# Altium footprint library SOT.PcbLib: 25 footprints (part 1 of 2)
Each footprint in its own frame and in the unit in brackets; x right, y up, seen from the top. Pads: shape width x height; smd on the part's side, far side on the other; paste and mask are expansions set on the pad; w line width, h text height; cw(c..) or ccw(c..) is an arc to the next point about the centre after c.
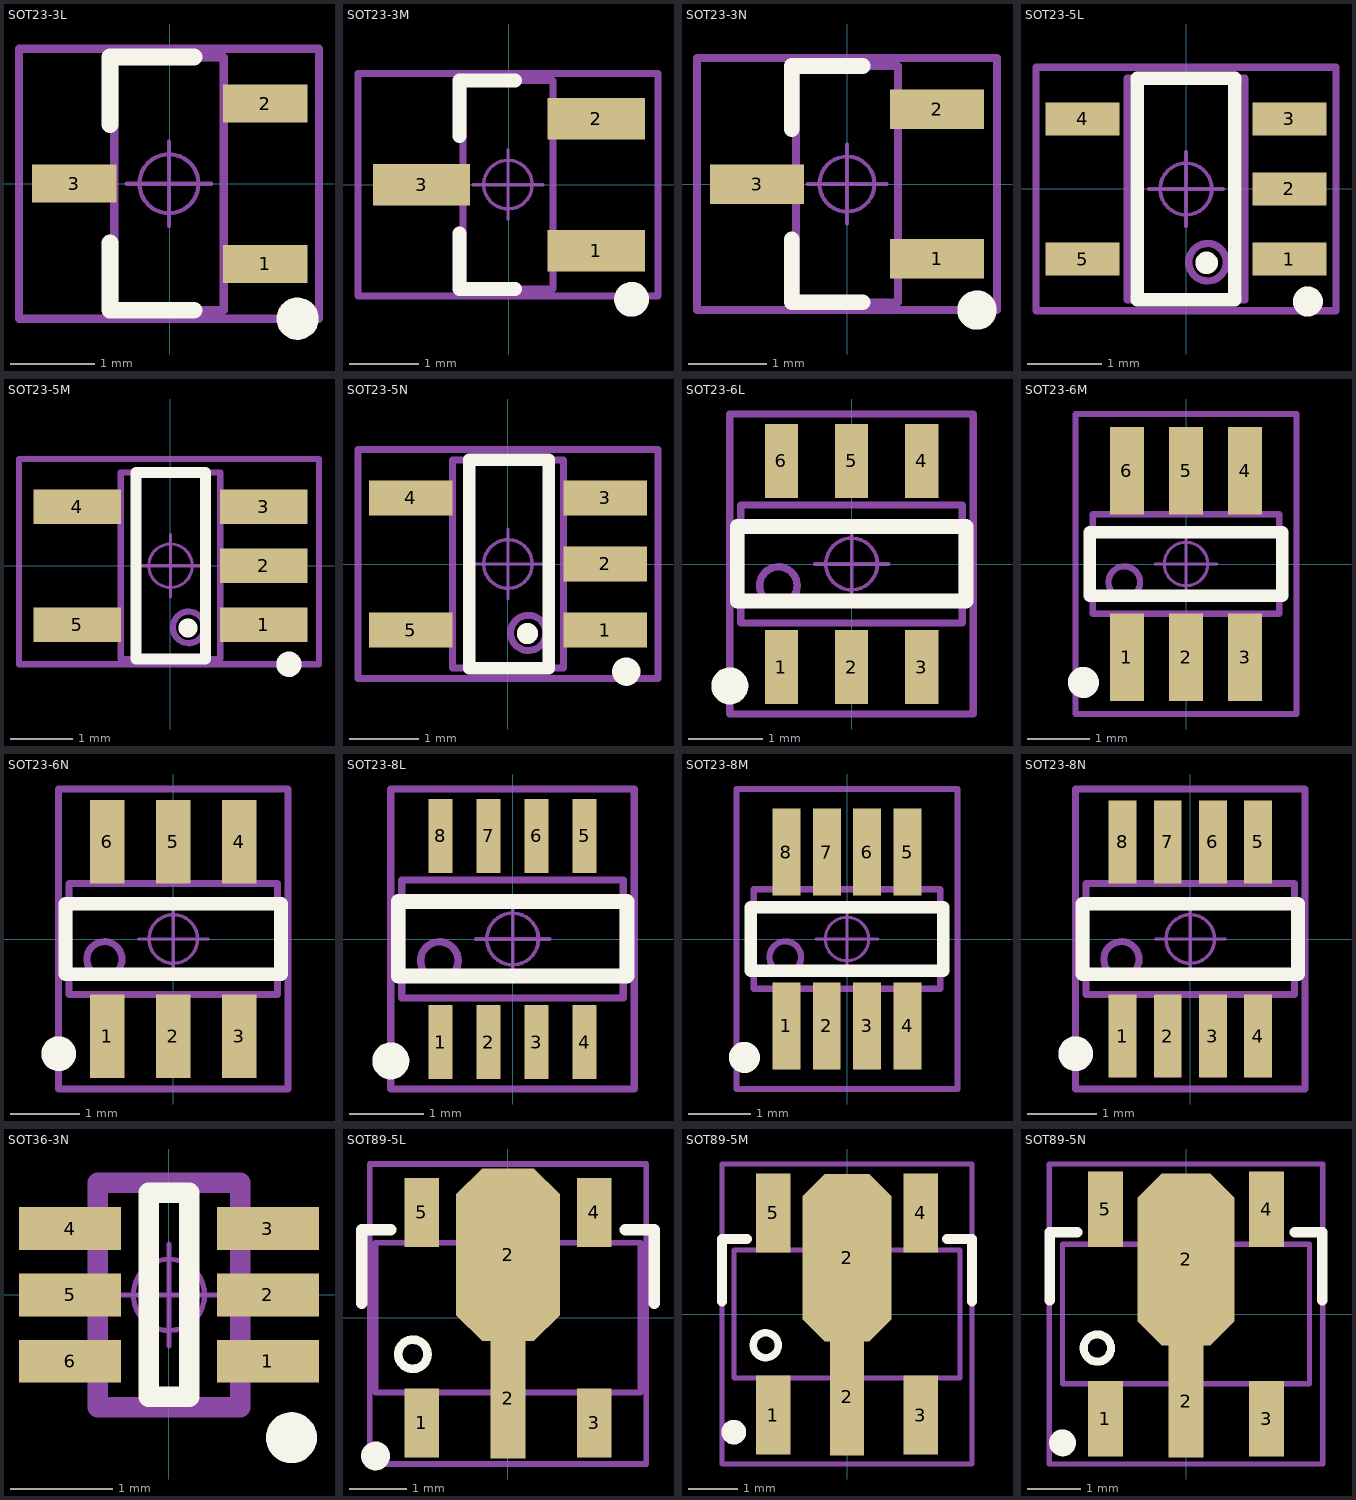
[diagram p0: the footprints below, top view; thin cyan lines are the x and y axes]

## SOT23-3L [mm] "3x1.3x1mm(长宽高)"
height 1.1
pads (3):
  rect 1x0.45 smd: 1(1.134,-0.95) 2(1.134,0.95) 3(-1.134,0)
Top Overlay:
  circle w0.25: c1.515,-1.6 r0.125
  lines w0.2: -0.709,-0.7 -0.709,-1.5 0.291,-1.5 ; -0.709,0.7 -0.709,1.5 0.291,1.5
Mechanical 13:
  lines w0.1: -0.659,-1.5 -0.659,1.5 0.641,1.5 0.641,-1.5 -0.659,-1.5
Mechanical 15:
  circle w0.05: c-0.009,0 r0.35
  lines w0.05: -0.509,0 0.491,0 ; -0.009,-0.5 -0.009,0.5
  lines w0.1: -1.787,-1.6 -1.787,1.6 1.769,1.6 1.769,-1.6 -1.787,-1.6
3D body "SOT23-3.STEP": height 1.05, standoff 0, extent -1.209,-1.5 1.191,1.5

## SOT23-3M [mm] "3x1.3x1mm(长宽高)"
height 1.1
pads (3):
  rect 1.4x0.6 smd: 1(1.257,-0.95) 2(1.257,0.95) 3(-1.257,0)
Top Overlay:
  circle w0.25: c1.765,-1.651 r0.125
  lines w0.2: -0.713,-0.7 -0.713,-1.5 0.087,-1.5 ; -0.713,0.7 -0.713,1.5 0.087,1.5
Mechanical 13:
  lines w0.1: -0.663,-1.5 0.637,-1.5 0.637,1.5 -0.663,1.5 -0.663,-1.5
Mechanical 15:
  circle w0.05: c-0.013,0 r0.35
  lines w0.05: -0.513,0 0.487,0 ; -0.013,-0.5 -0.013,0.5
  lines w0.1: -2.172,-1.6 2.146,-1.6 2.146,1.6 -2.172,1.6 -2.172,-1.6
3D body "SOT23-3.STEP": height 1.05, standoff 0, extent -1.213,-1.5 1.187,1.5

## SOT23-3N [mm] "3x1.3x1mm(长宽高)"
height 1.1
pads (3):
  rect 1.2x0.5 smd: 1(1.143,-0.95) 2(1.143,0.95) 3(-1.143,0)
Top Overlay:
  circle w0.25: c1.651,-1.6 r0.125
  lines w0.2: -0.7,-0.701 -0.7,-1.501 0.2,-1.501 ; -0.7,0.699 -0.7,1.499 0.2,1.499
Mechanical 13:
  lines w0.1: -0.65,-1.5 -0.65,1.5 0.65,1.5 0.65,-1.5 -0.65,-1.5
Mechanical 15:
  circle w0.05: c0,0 r0.35
  lines w0.05: -0.5,0 0.5,0 ; 0,-0.5 0,0.5
  lines w0.1: -1.905,-1.6 -1.905,1.6 1.905,1.6 1.905,-1.6 -1.905,-1.6
3D body "SOT23-3.STEP": height 1.05, standoff 0, extent -1.2,-1.5 1.2,1.5

## SOT23-5L [mm] "3x1.6x1.1mm(长宽高)"
pads (5):
  rect 1x0.45 smd: 1(1.4,-0.95) 2(1.4,0) 3(1.4,0.95) 4(-1.4,0.95) 5(-1.4,-0.95)
Top Overlay:
  circle w0.254: c0.279,-1.001 r0.025
  circle w0.254: c1.651,-1.524 r0.076
  lines w0.178: -0.66,-1.5 -0.66,1.5 0.66,1.5 0.66,-1.5 -0.66,-1.5
Mechanical 13:
  circle w0.1: c0.292,-0.992 r0.254
  lines w0.1: -0.8,-1.5 0.8,-1.5 0.8,1.5 -0.8,1.5 -0.8,-1.5
Mechanical 15:
  circle w0.05: c0,0 r0.35
  lines w0.05: -0.5,0 0.5,0 ; 0,-0.5 0,0.5
  lines w0.1: -2.032,-1.651 2.032,-1.651 2.032,1.651 -2.032,1.651 -2.032,-1.651
3D body "SOT23-5.STEP": height 1.15, standoff -0.03, extent -1.403,-1.5 1.403,1.5

## SOT23-5M [mm] "3x1.6x1.1mm(长宽高)"
pads (5):
  rect 1.4x0.55 smd: 1(1.5,-0.95) 2(1.5,0) 3(1.5,0.95) 4(-1.5,0.95) 5(-1.5,-0.95)
Top Overlay:
  circle w0.254: c0.281,-1.001 r0.025
  circle w0.254: c1.905,-1.585 r0.076
  lines w0.178: -0.557,-1.5 0.56,-1.5 0.56,1.5 -0.557,1.5 -0.557,-1.5
Mechanical 13:
  circle w0.1: c0.292,-0.992 r0.254
  lines w0.1: -0.8,-1.5 -0.8,1.5 0.8,1.5 0.8,-1.5 -0.8,-1.5
Mechanical 15:
  circle w0.05: c0,0 r0.35
  lines w0.05: -0.5,0 0.5,0 ; 0,-0.5 0,0.5
  lines w0.1: -2.437,-1.585 -2.437,1.717 2.389,1.717 2.389,-1.585 -2.437,-1.585
3D body "SOT23-5.STEP": height 1.15, standoff -0.03, extent -1.403,-1.5 1.403,1.5

## SOT23-5N [mm] "3x1.6x1.1mm(长宽高)"
pads (5):
  rect 1.2x0.5 smd: 1(1.4,-0.95) 2(1.4,0) 3(1.4,0.95) 4(-1.4,0.95) 5(-1.4,-0.95)
Top Overlay:
  circle w0.254: c0.279,-1.001 r0.025
  circle w0.254: c1.702,-1.549 r0.076
  lines w0.178: -0.559,-1.5 -0.559,1.5 0.584,1.5 0.584,-1.5 -0.559,-1.5
Mechanical 13:
  circle w0.1: c0.292,-0.992 r0.254
  lines w0.1: -0.8,-1.5 -0.8,1.5 0.8,1.5 0.8,-1.5 -0.8,-1.5
Mechanical 15:
  circle w0.05: c0,0 r0.35
  lines w0.05: -0.5,0 0.5,0 ; 0,-0.5 0,0.5
  lines w0.1: -2.159,-1.651 2.159,-1.651 2.159,1.651 -2.159,1.651 -2.159,-1.651
3D body "SOT23-5.STEP": height 1.15, standoff -0.03, extent -1.403,-1.5 1.403,1.5

## SOT23-6L [mm] "3x1.6x1.1mm(长宽高)"
height 1.45
pads (6):
  rect 0.45x1 smd: 1(-0.95,-1.397) 2(0,-1.397) 3(0.95,-1.397) 4(0.95,1.397) 5(0,1.397) 6(-0.95,1.397)
Top Overlay:
  circle w0.25: c-1.65,-1.651 r0.125
  lines w0.2: -1.55,-0.5 -1.55,0.508 1.55,0.508 1.55,-0.5 -1.55,-0.5
Mechanical 13:
  circle w0.1: c-0.992,-0.292 r0.254
  lines w0.1: -1.5,-0.8 1.5,-0.8 1.5,0.8 -1.5,0.8 -1.5,-0.8
Mechanical 15:
  circle w0.05: c0,0 r0.35
  lines w0.05: -0.5,0 0.5,0 ; 0,-0.5 0,0.5
  lines w0.1: -1.65,-2.032 1.65,-2.032 1.65,2.032 -1.65,2.032 -1.65,-2.032
3D body "SOT23-6.STEP": height 1.15, standoff -0.03, extent -1.5,-1.404 1.5,1.403

## SOT23-6M [mm] "3x1.6x1.1mm(长宽高)"
height 1.45
pads (6):
  rect 0.55x1.4 smd: 1(-0.95,-1.5) 2(0,-1.5) 3(0.95,-1.5) 4(0.95,1.5) 5(0,1.5) 6(-0.95,1.5)
Top Overlay:
  circle w0.25: c-1.651,-1.905 r0.125
  lines w0.2: -1.55,-0.508 1.55,-0.508 1.55,0.508 -1.55,0.508 -1.55,-0.508
Mechanical 13:
  circle w0.1: c-0.992,-0.292 r0.254
  lines w0.1: -1.5,-0.8 -1.5,0.8 1.5,0.8 1.5,-0.8 -1.5,-0.8
Mechanical 15:
  circle w0.05: c0,0 r0.35
  lines w0.05: -0.5,0 0.5,0 ; 0,-0.5 0,0.5
  lines w0.1: -1.778,-2.413 -1.778,2.413 1.778,2.413 1.778,-2.413 -1.778,-2.413
3D body "SOT23-6.STEP": height 1.15, standoff -0.03, extent -1.5,-1.403 1.5,1.403

## SOT23-6N [mm] "3x1.6x1.1mm(长宽高)"
height 1.45
pads (6):
  rect 0.5x1.2 smd: 1(-0.95,-1.4) 2(0,-1.4) 3(0.95,-1.4) 4(0.95,1.4) 5(0,1.4) 6(-0.95,1.4)
Top Overlay:
  circle w0.25: c-1.651,-1.651 r0.125
  lines w0.2: -1.55,-0.508 1.55,-0.508 1.55,0.508 -1.55,0.508 -1.55,-0.508
Mechanical 13:
  circle w0.1: c-0.992,-0.292 r0.254
  lines w0.1: -1.5,-0.8 -1.5,0.8 1.5,0.8 1.5,-0.8 -1.5,-0.8
Mechanical 15:
  circle w0.05: c0,0 r0.35
  lines w0.05: -0.5,0 0.5,0 ; 0,-0.5 0,0.5
  lines w0.1: -1.651,-2.159 -1.651,2.159 1.651,2.159 1.651,-2.159 -1.651,-2.159
3D body "SOT23-6.STEP": height 1.15, standoff -0.03, extent -1.5,-1.403 1.5,1.403

## SOT23-8L [mm] "3x1.6x1.1mm(长宽高)"
height 1.45
pads (8):
  rect 0.325x1 smd: 1(-0.975,-1.397) 2(-0.325,-1.397) 3(0.325,-1.397) 4(0.975,-1.397) 5(0.975,1.397) 6(0.325,1.397) 7(-0.325,1.397) 8(-0.975,1.397)
Top Overlay:
  circle w0.25: c-1.65,-1.651 r0.125
  lines w0.2: -1.55,-0.5 1.55,-0.5 1.55,0.508 -1.55,0.508 -1.55,-0.5
Mechanical 13:
  circle w0.1: c-0.992,-0.292 r0.254
  lines w0.1: -1.5,-0.8 -1.5,0.8 1.5,0.8 1.5,-0.8 -1.5,-0.8
Mechanical 15:
  circle w0.05: c0,0 r0.35
  lines w0.05: -0.5,0 0.5,0 ; 0,-0.5 0,0.5
  lines w0.1: -1.65,-2.032 -1.65,2.032 1.65,2.032 1.65,-2.032 -1.65,-2.032
3D body "SOT23-8.STEP": height 1.15, standoff 0, extent -1.5,-1.403 1.5,1.403

## SOT23-8M [mm] "3x1.6x1.1mm(长宽高)"
height 1.45
pads (8):
  rect 0.45x1.4 smd: 1(-0.975,-1.397) 3(0.325,-1.397) 4(0.975,-1.397) 5(0.975,1.397) 6(0.325,1.397) 7(-0.325,1.397) 8(-0.975,1.397)
  rect 0.44x1.4 smd: 2(-0.325,-1.397)
Top Overlay:
  circle w0.25: c-1.651,-1.905 r0.125
  lines w0.2: -1.55,-0.508 1.55,-0.508 1.55,0.508 -1.55,0.508 -1.55,-0.508
Mechanical 13:
  circle w0.1: c-0.992,-0.292 r0.254
  lines w0.1: -1.5,-0.8 -1.5,0.8 1.5,0.8 1.5,-0.8 -1.5,-0.8
Mechanical 15:
  circle w0.05: c0,0 r0.35
  lines w0.05: -0.5,0 0.5,0 ; 0,-0.5 0,0.5
  lines w0.1: -1.778,-2.413 -1.778,2.413 1.778,2.413 1.778,-2.413 -1.778,-2.413
3D body "SOT23-8.STEP": height 1.15, standoff 0, extent -1.5,-1.403 1.5,1.403

## SOT23-8N [mm] "3x1.6x1.1mm(长宽高)"
height 1.45
pads (8):
  rect 0.4x1.2 smd: 1(-0.975,-1.397) 2(-0.325,-1.397) 3(0.325,-1.397) 4(0.975,-1.397) 5(0.975,1.397) 6(0.325,1.397) 7(-0.325,1.397) 8(-0.975,1.397)
Top Overlay:
  circle w0.25: c-1.651,-1.651 r0.125
  lines w0.2: -1.55,-0.508 1.55,-0.508 1.55,0.508 -1.55,0.508 -1.55,-0.508
Mechanical 13:
  circle w0.1: c-0.992,-0.292 r0.254
  lines w0.1: -1.5,-0.8 -1.5,0.8 1.5,0.8 1.5,-0.8 -1.5,-0.8
Mechanical 15:
  circle w0.05: c0,0 r0.35
  lines w0.05: -0.5,0 0.5,0 ; 0,-0.5 0,0.5
  lines w0.1: -1.651,-2.159 -1.651,2.159 1.651,2.159 1.651,-2.159 -1.651,-2.159
3D body "SOT23-8.STEP": height 1.15, standoff 0, extent -1.5,-1.403 1.5,1.403

## SOT36-3N [mm]
pads (6):
  rect 1x0.42 smd mask+0.051: 1(0.97,-0.65) 2(0.97,0) 3(0.97,0.65) 4(-0.97,0.65) 5(-0.97,0) 6(-0.97,-0.65)
Top Overlay:
  circle w0.25: c1.2,-1.4 r0.125
  lines w0.2: -0.2,-1 -0.2,1 0.2,1 0.2,-1 -0.2,-1
Mechanical 13:
  lines w0.2: -0.7,-1.1 0.7,-1.1 0.7,1.1 -0.7,1.1 -0.7,-1.1
Mechanical 15:
  circle w0.05: c0,0 r0.35
  lines w0.05: -0.5,0 0.5,0 ; 0,-0.5 0,0.5
3D body "User Library-SOT363-2.STEP": height 1.1, standoff 0, extent -1.2,-1.1 1.2,1.1

## SOT89-5L [mm] "4.6x4.3x1.6mm(长宽高)"
height 1.6
pads (6):
  rect 0.6x1.2 smd: 1(-1.5,-1.827) 3(1.5,-1.827) 4(1.5,1.827) 5(-1.5,1.827)
  rect 0.6x2.1 smd: 2(0,-1.397)
  oct 1.8x3 smd: 2(0,1.092)
Top Overlay:
  circle w0.25: c-2.3,-2.4 r0.125
  circle w0.15: c-1.651,-0.635 r0.254
  lines w0.2: -2.54,0.254 -2.54,1.524 -2.032,1.524 ; 2.032,1.524 2.54,1.524 2.54,0.254
Mechanical 13:
  circle w0.1: c-1.651,-0.635 r0.25
  lines w0.1: -2.3,-1.3 2.3,-1.3 2.3,1.3 -2.3,1.3 -2.3,-1.3
Mechanical 15:
  circle w0.05: c0,0 r0.35
  lines w0.05: -0.5,0 0.5,0 ; 0,-0.5 0,0.5
  lines w0.1: -2.4,-2.54 2.4,-2.54 2.4,2.667 -2.4,2.667 -2.4,-2.54
3D body "SOT89-5.STEP": height 1.6, standoff 0.04, extent -2.3,-2.4 2.3,2.4

## SOT89-5M [mm] "4.6x4.3x1.6mm(长宽高)"
height 1.6
pads (6):
  rect 0.7x1.6 smd: 1(-1.5,-2.054) 3(1.5,-2.054) 4(1.5,2.054) 5(-1.5,2.054)
  rect 0.7x2.4 smd: 2(0,-1.676)
  oct 1.8x3.4 smd: 2(0,1.143)
Top Overlay:
  circle w0.15: c-1.651,-0.635 r0.254
  circle w0.25: c-2.3,-2.4 r0.125
  lines w0.2: -2.54,0.254 -2.54,1.524 -2.032,1.524 ; 2.032,1.524 2.54,1.524 2.54,0.254
Mechanical 13:
  circle w0.1: c-1.651,-0.635 r0.25
  lines w0.1: -2.3,-1.3 -2.3,1.3 2.3,1.3 2.3,-1.3 -2.3,-1.3
Mechanical 15:
  circle w0.05: c0,0 r0.35
  lines w0.05: -0.5,0 0.5,0 ; 0,-0.5 0,0.5
  lines w0.1: -2.54,-3.048 2.54,-3.048 2.54,3.048 -2.54,3.048 -2.54,-3.048
3D body "SOT89-5.STEP": height 1.6, standoff 0.04, extent -2.3,-2.4 2.3,2.4

## SOT89-5N [mm] "4.6x4.3x1.6mm(长宽高)"
height 1.6
pads (6):
  rect 0.65x1.4 smd: 1(-1.5,-1.952) 3(1.5,-1.952) 4(1.5,1.952) 5(-1.5,1.952)
  rect 0.65x2.1 smd: 2(0,-1.626)
  oct 1.8x3.2 smd: 2(0,1.016)
Top Overlay:
  circle w0.25: c-2.3,-2.4 r0.125
  circle w0.15: c-1.651,-0.635 r0.254
  lines w0.2: -2.54,0.254 -2.54,1.524 -2.032,1.524 ; 2.032,1.524 2.54,1.524 2.54,0.254
Mechanical 13:
  circle w0.1: c-1.651,-0.635 r0.25
  lines w0.1: -2.3,-1.3 2.3,-1.3 2.3,1.3 -2.3,1.3 -2.3,-1.3
Mechanical 15:
  circle w0.05: c0,0 r0.35
  lines w0.05: -0.5,0 0.5,0 ; 0,-0.5 0,0.5
  lines w0.1: -2.55,-2.794 -2.55,2.794 2.55,2.794 2.55,-2.794 -2.55,-2.794
3D body "SOT89-5.STEP": height 1.6, standoff 0.04, extent -2.3,-2.4 2.3,2.4